# Altium footprint library PcbLib1.PcbLib: 18 footprints (part 1 of 2)
Each footprint in its own frame and in the unit in brackets; x right, y up, seen from the top. Pads: shape width x height; smd on the part's side, far side on the other; paste and mask are expansions set on the pad; w line width, h text height; cw(c..) or ccw(c..) is an arc to the next point about the centre after c.
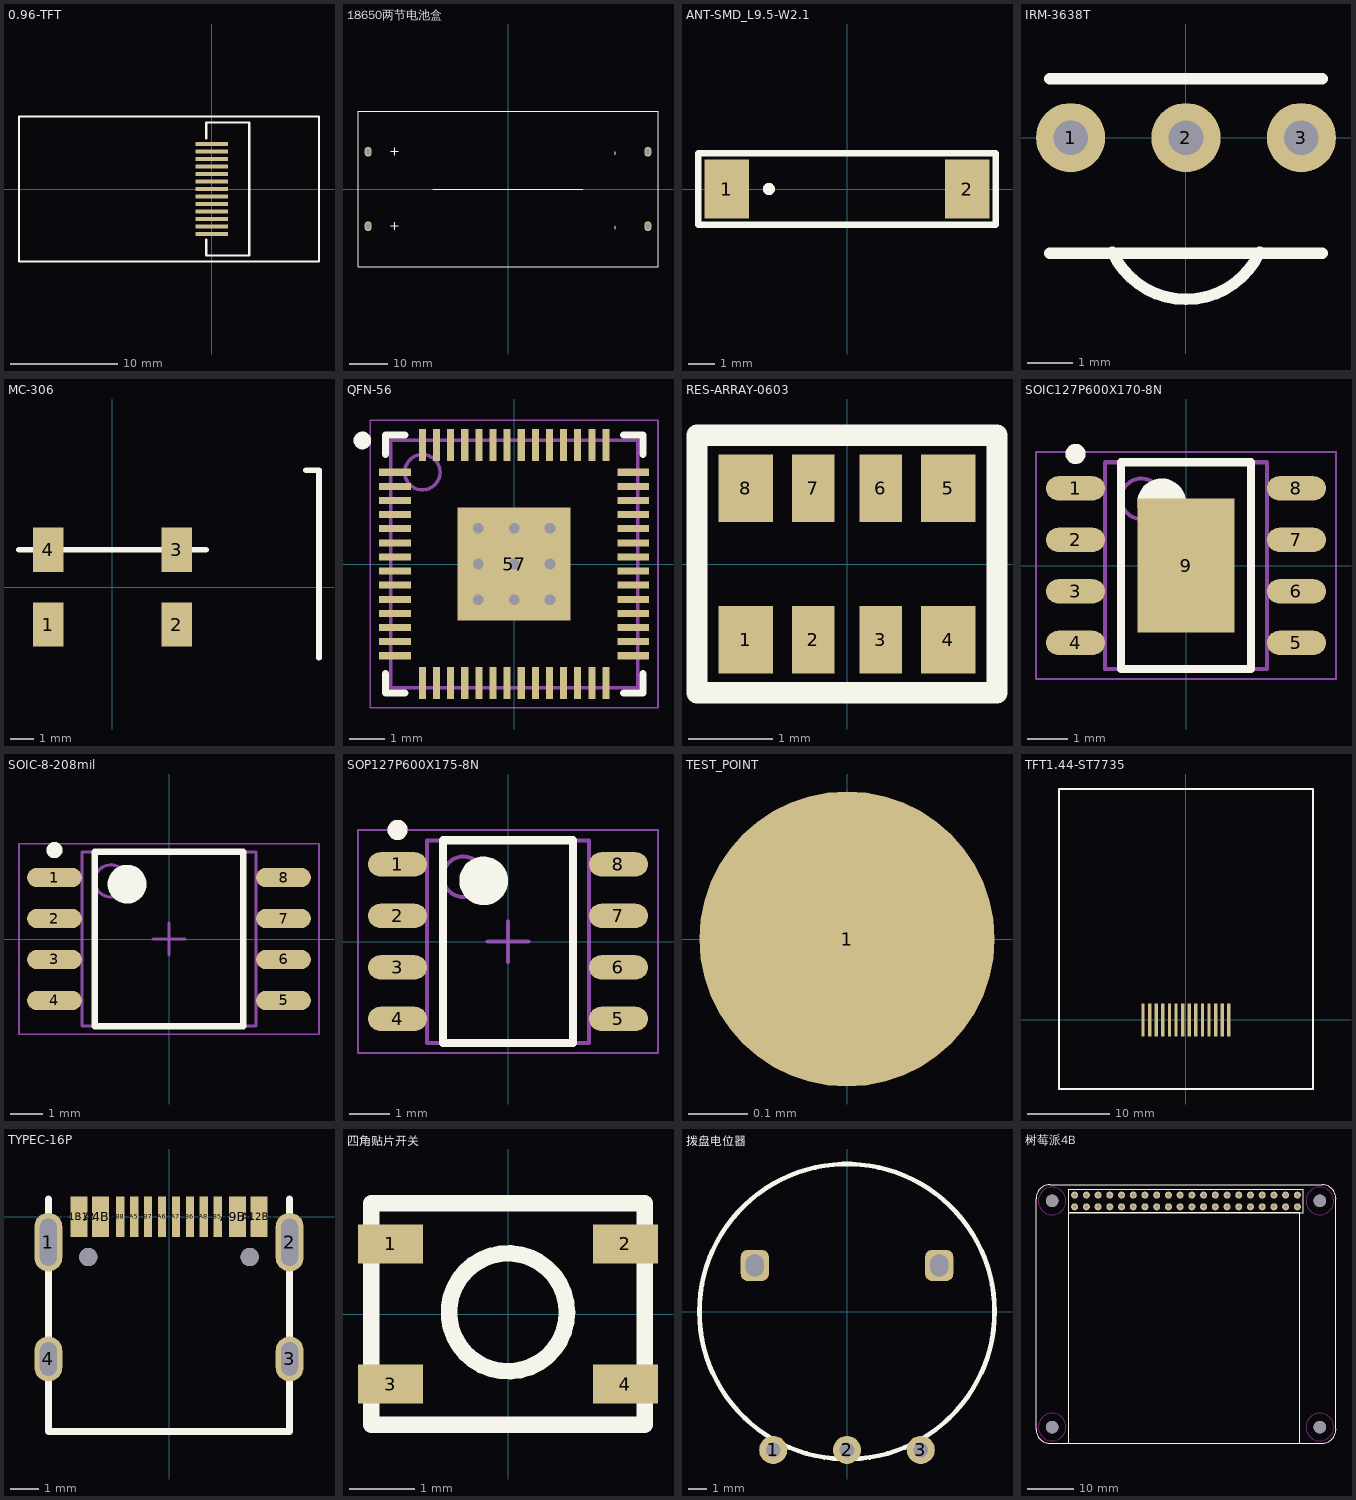
[diagram p0: the footprints below, top view; thin cyan lines are the x and y axes]

## 0.96-TFT [mm]
pads (13):
  rect 3x0.4 smd: 1(0,4.2) 2(0,3.5) 3(0,2.8) 4(0,2.1) 5(0,1.4) 6(0,0.7) 7(0,0) 8(0,-0.7) 9(0,-1.4) 10(0,-2.1) 11(0,-2.8) 12(0,-3.5) 13(0,-4.2)
Top Overlay:
  lines w0.2: -0.508,-4.699 -0.508,-6.2 -0.5,-6.2 3.5,-6.2 3.5,6.2 -0.5,6.2 -0.508,6.2 -0.508,4.699 ; -17.95,-6.75 -17.95,6.75 10,6.75 10,-6.75 -17.95,-6.75

## 18650两节电池盒 [mm]
pads (4):
  oval 1.8x2.5 hole 1.6 slot 1.2 at 0 deg: 1(-36.25,9.65) 2(-36.25,-9.65) 3(36.25,-9.65) 4(36.25,9.65)
Top Overlay:
  lines w0.254: -19.431,0 19.419,0 ; -38.85,-20.105 -38.85,20.105 38.85,20.105 38.85,-20.105 -38.85,-20.105
  text "-" at 28.721,-10.721 h2.5
  text "-" at 28.721,8.579 h2.5
  text "+" at -30.765,-10.721 h2.5
  text "+" at -30.765,8.579 h2.5

## ANT-SMD_L9.5-W2.1 [mm]
pads (2):
  rect 1.71x2.268 smd: 1(-4.63,0) 2(4.63,0)
Top Overlay:
  circle w0.254: c-3,0 r0.108
  lines w0.254: -5.715,-1.372 5.715,-1.372 5.715,1.372 -5.715,1.372 -5.715,-1.372
3D body: height 1, standoff 0, extent -5.486,-1.372 5.486,1.372

## IRM-3638T [mil]
pads (3):
  round 60 hole 30: 1(-100,0) 2(0,0) 3(100,0)
Top Overlay:
  lines w10: -118.11,-100 118.11,-100 ; -118.11,51.18 118.11,51.18 ; -63.72,-99.41 ccw(c0,-70) 63.72,-99.41

## MC-306 [mm]
pads (4):
  rect 1.3x1.9 smd: 1(-2.75,-1.6) 2(2.75,-1.6) 3(2.75,1.6) 4(-2.75,1.6)
Top Overlay:
  lines w0.254: -4,1.6 4,1.6 ; 8.28,5.004 8.839,5.004 8.839,-3.023

## QFN-56 [mm] "RP2040"
pads (57):
  rect 0.9x0.2 smd: 1(-3.375,2.6) 2(-3.375,2.2) 3(-3.375,1.8) 4(-3.375,1.4) 5(-3.375,1) 6(-3.375,0.6) 7(-3.375,0.2) 8(-3.375,-0.2) 9(-3.375,-0.6) 10(-3.375,-1) 11(-3.375,-1.4) 12(-3.375,-1.8) 13(-3.375,-2.2) 14(-3.375,-2.6) 29(3.375,-2.6) 30(3.375,-2.2) 31(3.375,-1.8) 32(3.375,-1.4) 33(3.375,-1) 34(3.375,-0.6) 35(3.375,-0.2) 36(3.375,0.2) 37(3.375,0.6) 38(3.375,1) 39(3.375,1.4) 40(3.375,1.8) 41(3.375,2.2) 42(3.375,2.6)
  rect 0.2x0.9 smd: 15(-2.6,-3.375) 16(-2.2,-3.375) 17(-1.8,-3.375) 18(-1.4,-3.375) 19(-1,-3.375) 20(-0.6,-3.375) 21(-0.2,-3.375) 22(0.2,-3.375) 23(0.6,-3.375) 24(1,-3.375) 25(1.4,-3.375) 26(1.8,-3.375) 27(2.2,-3.375) 28(2.6,-3.375) 43(2.6,3.375) 44(2.2,3.375) 45(1.8,3.375) 46(1.4,3.375) 47(1,3.375) 48(0.6,3.375) 49(0.2,3.375) 50(-0.2,3.375) 51(-0.6,3.375) 52(-1,3.375) 53(-1.4,3.375) 54(-1.8,3.375) 55(-2.2,3.375) 56(-2.6,3.375)
  rect 3.2x3.2 smd: 57(0,0)
via -1.016,1.016 diameter 0.5 hole 0.3
via 0,1.016 diameter 0.5 hole 0.3
via 1.016,1.016 diameter 0.5 hole 0.3
via -1.016,0 diameter 0.5 hole 0.3
via 0,0 diameter 0.5 hole 0.3
via 1.016,0 diameter 0.5 hole 0.3
via -1.016,-1.016 diameter 0.5 hole 0.3
via 0,-1.016 diameter 0.5 hole 0.3
via 1.016,-1.016 diameter 0.5 hole 0.3
Top Overlay:
  circle w0.25: c-4.3,3.5 r0.125
  lines w0.2: -3.65,-3.1 -3.65,-3.65 -3.1,-3.65 ; -3.65,3.1 -3.65,3.65 -3.1,3.65 ; 3.1,-3.65 3.65,-3.65 3.65,-3.1 ; 3.1,3.65 3.65,3.65 3.65,3.1
Mechanical 13:
  circle w0.1: c-2.6,2.6 r0.5
  lines w0.1: -3.5,-3.5 -3.5,3.5 3.5,3.5 3.5,-3.5 -3.5,-3.5
Mechanical 15:
  lines w0.05: -4.075,-4.075 -4.075,4.075 4.075,4.075 4.075,-4.075 -4.075,-4.075
3D body: height 0.9, standoff 0.05, extent -3.5,-3.5 3.5,3.5

## RES-ARRAY-0603 [mm]
pads (8):
  rect 0.65x0.8 smd: 1(-1.2,-0.9) 4(1.2,-0.9) 5(1.2,0.9) 8(-1.2,0.9)
  rect 0.5x0.8 smd: 2(-0.4,-0.9) 3(0.4,-0.9) 6(0.4,0.9) 7(-0.4,0.9)
Top Overlay:
  lines w0.254: -1.778,-1.524 -1.778,1.524 1.778,1.524 1.778,-1.524 -1.778,-1.524

## SOIC127P600X170-8N [mm] "SOIC, 8-Leads, Body 4.90x3.90mm, Pitch 1.27mm, IPC Medium Density"
height 1.7
pads (9):
  oval 1.45x0.6 smd: 1(-2.725,1.905) 2(-2.725,0.635) 3(-2.725,-0.635) 4(-2.725,-1.905) 5(2.725,-1.905) 6(2.725,-0.635) 7(2.725,0.635) 8(2.725,1.905)
  rect 2.4x3.3 smd: 9(0,0)
Top Overlay:
  circle w0.25: c-2.725,2.755 r0.125
  circle w0.6: c-0.6,1.55 r0.3
  lines w0.2: -1.6,-2.55 -1.6,2.55 1.6,2.55 1.6,-2.55 -1.6,-2.55
Mechanical 13:
  circle w0.1: c-1.1,1.65 r0.5
  lines w0.1: -2,-2.55 -2,2.55 2,2.55 2,-2.55 -2,-2.55
Mechanical 15:
  lines w0.05: -3.7,-2.8 -3.7,2.8 3.7,2.8 3.7,-2.8 -3.7,-2.8
  lines w0.1: -0.5,0 0.5,0 ; 0,-0.5 0,0.5
3D body: height 1.7, standoff 0.1, extent -2,-2.55 2,2.55

## SOIC-8-208mil [mm] "SOIC, 8-Leads, Body 5.28x5.28mm, Pitch 1.27mm, IPC Medium Density"
height 1.75
pads (8):
  oval 1.7x0.6 smd: 1(-3.55,1.905) 2(-3.55,0.635) 3(-3.55,-0.635) 4(-3.55,-1.905) 5(3.55,-1.905) 6(3.55,-0.635) 7(3.55,0.635) 8(3.55,1.905)
Top Overlay:
  circle w0.6: c-1.3,1.7 r0.3
  circle w0.25: c-3.55,2.755 r0.125
  lines w0.2: -2.3,-2.7 2.3,-2.7 2.3,2.7 -2.3,2.7 -2.3,-2.7
Mechanical 13:
  circle w0.1: c-1.8,1.8 r0.5
  lines w0.1: -2.7,-2.7 2.7,-2.7 2.7,2.7 -2.7,2.7 -2.7,-2.7
Mechanical 15:
  lines w0.05: -4.65,-2.95 4.65,-2.95 4.65,2.95 -4.65,2.95 -4.65,-2.95
  lines w0.1: -0.5,0 0.5,0 ; 0,-0.5 0,0.5
3D body: height 1.95, standoff 1.75, extent -2.7,-2.7 2.7,2.7

## SOP127P600X175-8N [mm] "SOP, 8-Leads, Body 4.90x3.90mm, Pitch 1.27mm, IPC Medium Density"
height 1.75
pads (8):
  oval 1.45x0.6 smd: 1(-2.725,1.905) 2(-2.725,0.635) 3(-2.725,-0.635) 4(-2.725,-1.905) 5(2.725,-1.905) 6(2.725,-0.635) 7(2.725,0.635) 8(2.725,1.905)
Top Overlay:
  circle w0.25: c-2.725,2.755 r0.125
  circle w0.6: c-0.6,1.5 r0.3
  lines w0.2: -1.6,-2.5 -1.6,2.5 1.6,2.5 1.6,-2.5 -1.6,-2.5
Mechanical 13:
  circle w0.1: c-1.1,1.6 r0.5
  lines w0.1: -2,-2.5 -2,2.5 2,2.5 2,-2.5 -2,-2.5
Mechanical 15:
  lines w0.05: -3.7,-2.75 -3.7,2.75 3.7,2.75 3.7,-2.75 -3.7,-2.75
  lines w0.1: -0.5,0 0.5,0 ; 0,-0.5 0,0.5
3D body: height 1.75, standoff 0.1, extent -2,-2.5 2,2.5

## TEST_POINT [mm]
pads (1):
  round 0.5 smd: 1(0,0)

## TFT1.44-ST7735 [mm]
pads (14):
  rect 0.4x4 smd: 1(5.2,0) 2(4.4,0) 3(3.6,0) 4(2.8,0) 5(2,0) 6(1.2,0) 7(0.4,0) 8(-0.4,0) 9(-1.2,0) 10(-2,0) 11(-2.8,0) 12(-3.6,0) 13(-4.4,0) 14(-5.2,0)
Top Overlay:
  lines w0.254: -15.4,27.978 15.4,27.978 ; -15.399,27.978 -15.399,-8.382 15.401,-8.382 15.401,27.978
  text "." at 5.969,-2.667 h1.52
3D body: height 2, standoff 0.25, extent -15.4,-8.382 15.401,27.978

## TYPEC-16P [mm]
pads (18):
  oval 1x2.1 hole 0.6 slot 1.7 at 90 deg: 1(-4.32,-0.915) 2(4.32,-0.915)
  oval 1x1.6 hole 0.6 slot 1.2 at 90 deg: 3(4.32,-5.095) 4(-4.32,-5.095)
  rect 0.6x1.45 smd: A1B12(-3.225,0) A4B9(-2.45,0) A9B4(2.45,0) A12B1(3.225,0)
  rect 0.3x1.45 smd: A5(-1.25,0) A6(-0.25,0) A7(0.25,0) A8(1.25,0) B5(1.75,0) B6(0.75,0) B7(-0.75,0) B8(-1.75,0)
  round 0.65 hole 0.65 unplated: ""(-2.89,-1.445) ""(2.89,-1.445)
Top Overlay:
  lines w0.254: -4.32,0.633 -4.32,-7.695 4.32,-7.695 4.32,0.633

## 四角贴片开关 [mm]
pads (4):
  rect 1x0.6 smd: 1(-1.8,1.075) 2(1.8,1.075) 3(-1.8,-1.075) 4(1.8,-1.075)
Top Overlay:
  circle w0.254: c0,0.025 r0.904
  lines w0.254: -2.1,-1.7 -2.1,1.7 2.1,1.7 2.1,-1.7 -2.1,-1.7

## 拨盘电位器 [mm]
pads (5):
  round 1.524 hole 0.8: 1(-4,-7.5) 2(0,-7.5) 3(4,-7.5)
  rrect50% 1.524x1.7 hole 1.2 slot 1 at 0 deg: ""(-5,2.5) ""(5,2.5)
Top Overlay:
  circle w0.254: c0,0 r8

## 树莓派4B [mil]
pads (44):
  round 60 hole 30: 1(-49670.22,-47982.82) 2(-49570.22,-47982.82) 3(-49470.22,-47982.82) 4(-49370.22,-47982.82) 5(-49270.22,-47982.82) 6(-49170.22,-47982.82) 7(-49070.22,-47982.82) 8(-48970.22,-47982.82) 9(-48870.22,-47982.82) 10(-48770.22,-47982.82) 11(-48670.22,-47982.82) 12(-48570.22,-47982.82) 13(-48470.22,-47982.82) 14(-48370.22,-47982.82) 15(-48270.22,-47982.82) 16(-48170.22,-47982.82) 17(-48070.22,-47982.82) 18(-47970.22,-47982.82) 19(-47870.22,-47982.82) 20(-47770.22,-47982.82) 21(-47770.22,-47882.82) 22(-47870.22,-47882.82) 23(-47970.22,-47882.82) 24(-48070.22,-47882.82) 25(-48170.22,-47882.82) 26(-48270.22,-47882.82) 27(-48370.22,-47882.82) 28(-48470.22,-47882.82) 29(-48570.22,-47882.82) 30(-48670.22,-47882.82) 31(-48770.22,-47882.82) 32(-48870.22,-47882.82) 33(-48970.22,-47882.82) 34(-49070.22,-47882.82) 35(-49170.22,-47882.82) 36(-49270.22,-47882.82) 37(-49370.22,-47882.82) 38(-49470.22,-47882.82) 39(-49570.22,-47882.82) 40(-49670.22,-47882.82)
  round 106.3 hole 106.3 unplated mask+59.06: ""(-49861.95,-49861.95) ""(-49861.95,-47932.82) ""(-47578.49,-49861.95) ""(-47578.49,-47932.82)
Top Overlay:
  lines w0.5: -49999.75,-49881.64 ccw(c-49881.64,-49881.64) -49881.64,-49999.75 -47558.81,-49999.75 ccw(c-47558.81,-49881.64) -47440.69,-49881.64 -47440.69,-47913.14 ccw(c-47558.81,-47913.14) -47558.81,-47795.03 -49881.64,-47795.03 ccw(c-49881.64,-47913.14) -49999.75,-47913.14 -49999.75,-49881.64
  lines w7.87: -49718.5,-49996.06 -49718.5,-48027.56 -47750,-48027.56 -47750,-49996.06
  lines w10: -49720.22,-48032.82 -49720.22,-47832.82 -47720.22,-47832.82 -47720.22,-48032.82 -49720.22,-48032.82
Top Solder:
  circle w10: c-49861.95,-47932.82 r118.11
Keep-Out Layer:
  circle w10: c-47578.49,-47932.82 r118.11
  circle w10: c-47578.49,-49861.95 r118.11
  circle w10: c-49861.95,-49861.95 r118.11
  circle w10: c-49861.95,-47932.82 r118.11